# Altium footprint library 430451815.PcbLib: 1 footprints
Each footprint in its own frame and in the unit in brackets; x right, y up, seen from the top. Pads: shape width x height; smd on the part's side, far side on the other; paste and mask are expansions set on the pad; w line width, h text height; cw(c..) or ccw(c..) is an arc to the next point about the centre after c.
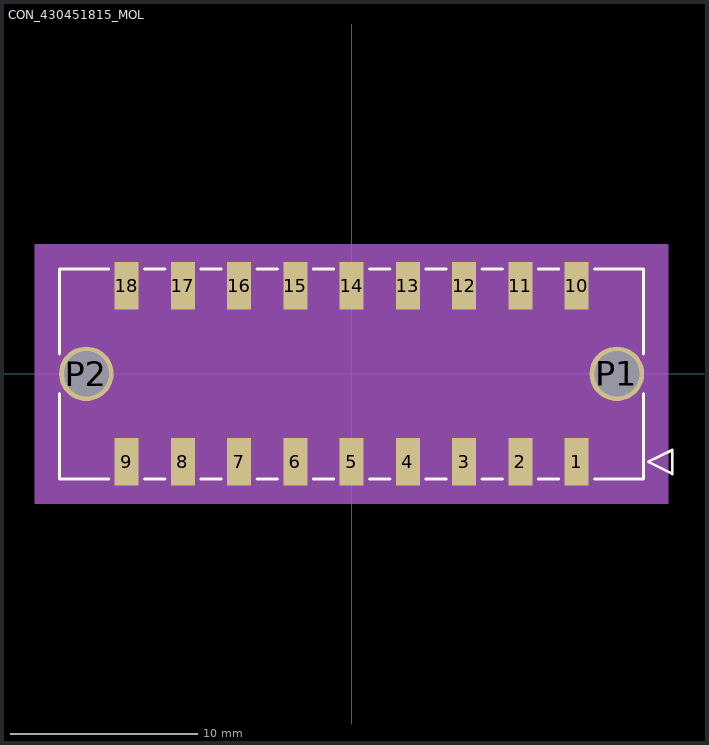
[diagram p0: the footprint, top view; thin cyan lines are the x and y axes]

## CON_430451815_MOL [mm]
pads (20):
  rect 1.27x2.54 smd paste+0 mask+0.076: 1(12,-4.7) 2(9,-4.7) 3(6,-4.7) 4(3,-4.7) 5(0,-4.7) 6(-3,-4.7) 7(-6,-4.7) 8(-9,-4.7) 9(-12,-4.7) 10(12,4.7) 11(9,4.7) 12(6,4.7) 13(3,4.7) 14(0,4.7) 15(-3,4.7) 16(-6,4.7) 17(-9,4.7) 18(-12,4.7)
  round 2.91 / inner round 1.524 / far side round 2.91 hole 2.41 paste-1.455 mask+0.076: P1(14.15,0) P2(-14.15,0)
Top Overlay:
  lines w0.152: -15.575,-1.058 -15.575,-5.61 -12.955,-5.61 ; -15.575,1.058 -15.575,5.59 -12.955,5.59 ; -11.045,-5.61 -9.955,-5.61 ; -11.045,5.59 -9.955,5.59 ; -8.045,-5.61 -6.955,-5.61 ; -8.045,5.59 -6.955,5.59 ; -5.045,-5.61 -3.955,-5.61 ; -5.045,5.59 -3.955,5.59 ; -2.045,-5.61 -0.955,-5.61 ; -2.045,5.59 -0.955,5.59 ; 0.955,-5.61 2.045,-5.61 ; 0.955,5.59 2.045,5.59 ; 3.955,-5.61 5.045,-5.61 ; 3.955,5.59 5.045,5.59 ; 6.955,-5.61 8.045,-5.61 ; 6.955,5.59 8.045,5.59 ; 9.955,-5.61 11.045,-5.61 ; 9.955,5.59 11.045,5.59 ; 12.955,-5.61 15.575,-5.61 15.575,-1.058 ; 12.955,5.59 15.575,5.59 15.575,1.058 ; 15.829,-4.7 17.099,-5.335 17.099,-4.065 15.829,-4.7
Mechanical 3:
Mechanical 13:
  lines w0.127: -15.575,-5.61 -15.575,5.59 15.575,5.59 15.575,-5.61 -15.575,-5.61 ; 15.829,-4.7 17.099,-5.335 17.099,-4.065 15.829,-4.7
Mechanical 15:
  region: 16.845,6.86 -16.845,6.86 -16.845,-6.88 16.845,-6.88
  lines w0.127: -16.845,-6.88 16.845,-6.88 16.845,6.86 -16.845,6.86 -16.845,-6.88